# EAGLE library part FM25V01 (library PX4FMUlite_V0_1)
FM25V01 128Kb Serial 3V F-RAM Memory
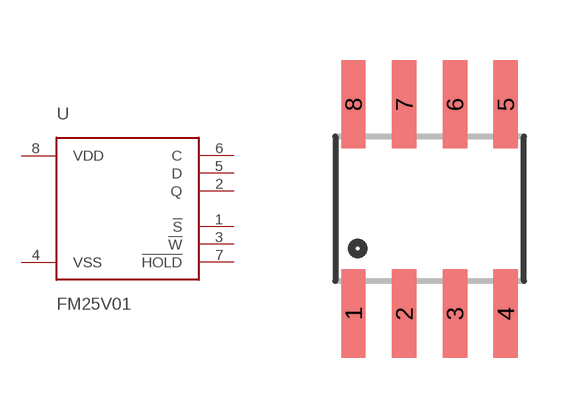
[diagram p8: symbol with the pads of SO08; footprint SO08]

Designator prefix -

## FM25V01 (DATASHEET: http://www.ramtron.com/files/datasheets/FM25V01_ds.pdf; LINK: http://www.digikey.com/product-detail/en/FM25V01-GTR/1140-1026-1-ND/2809832; MFGPN: FM25V01)  [SO08]
1  !S
2  Q
3  !W
4  VSS
5  D
6  C
7  !HOLD
8  VDD

## Footprint SO08 (pad centres in mm)
Small Outline Package Fits JEDEC packages (narrow SOIC-8)
smd 0.61 x 2.21: 1 -1.905,-2.616; 2 -0.635,-2.616; 3 0.635,-2.616; 4 1.905,-2.616; 5 1.905,2.616; 6 0.635,2.616; 7 -0.635,2.616; 8 -1.905,2.616